# Altium schematic symbol library ECS-3518-1000-B-TR.SchLib: 1 symbol
Pins are listed as number, name and electrical type; pins without a type are passive.

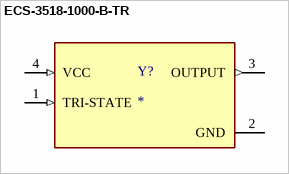
[diagram p0: symbol ECS-3518-1000-B-TR]

## ECS-3518-1000-B-TR
designator Y?
subminiature SMD oscillators; MP: ECS-3518-1000-B-TR; MF: {'manufacturer': u'ECS Inc.'}; Price: None; Availability: Unavailable; Value: *; Package: None
footprint OSC_ECS-3518-1000-B-TR
pins: 1 TRI-STATE (in), 2 GND (power), 3 OUTPUT (out), 4 VCC (in)